# Altium schematic symbol library SCH - MCU - NUVOTON - NUVOTON NUC123SC2AN1.SchLib: 1 symbol
Pins are listed as number, name and electrical type; pins without a type are passive.

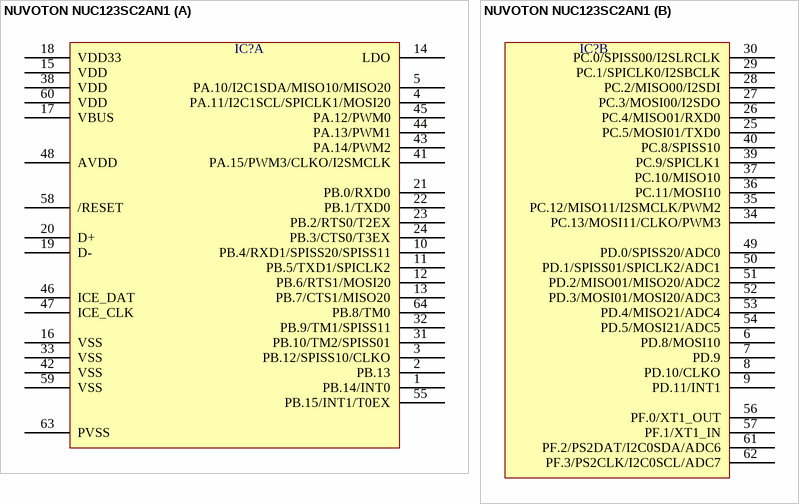
[diagram p0: symbol NUVOTON NUC123SC2AN1]

## NUVOTON NUC123SC2AN1
designator IC?  (value not drawn)
part A pins: 1 PB.14/INT0, 2 PB.13, 3 PB.12/SPISS10/CLKO, 4 PA.11/I2C1SCL/SPICLK1/MOSI20, 5 PA.10/I2C1SDA/MISO10/MISO20, 10 PB.4/RXD1/SPISS20/SPISS11, 11 PB.5/TXD1/SPICLK2, 12 PB.6/RTS1/MOSI20, 13 PB.7/CTS1/MISO20, 14 LDO, 15 VDD, 16 VSS, 17 VBUS, 18 VDD33, 19 D-, 20 D+, 21 PB.0/RXD0, 22 PB.1/TXD0, 23 PB.2/RTS0/T2EX, 24 PB.3/CTS0/T3EX, 31 PB.10/TM2/SPISS01, 32 PB.9/TM1/SPISS11, 33 VSS, 38 VDD, 41 PA.15/PWM3/CLKO/I2SMCLK, 42 VSS, 43 PA.14/PWM2, 44 PA.13/PWM1, 45 PA.12/PWM0, 46 ICE_DAT, 47 ICE_CLK, 48 AVDD, 55 PB.15/INT1/T0EX, 58 /RESET, 59 VSS, 60 VDD, 63 PVSS, 64 PB.8/TM0
part B pins: 6 PD.8/MOSI10, 7 PD.9, 8 PD.10/CLKO, 9 PD.11/INT1, 25 PC.5/MOSI01/TXD0, 26 PC.4/MISO01/RXD0, 27 PC.3/MOSI00/I2SDO, 28 PC.2/MISO00/I2SDI, 29 PC.1/SPICLK0/I2SBCLK, 30 PC.0/SPISS00/I2SLRCLK, 34 PC.13/MOSI11/CLKO/PWM3, 35 PC.12/MISO11/I2SMCLK/PWM2, 36 PC.11/MOSI10, 37 PC.10/MISO10, 39 PC.9/SPICLK1, 40 PC.8/SPISS10, 49 PD.0/SPISS20/ADC0, 50 PD.1/SPISS01/SPICLK2/ADC1, 51 PD.2/MISO01/MISO20/ADC2, 52 PD.3/MOSI01/MOSI20/ADC3, 53 PD.4/MISO21/ADC4, 54 PD.5/MOSI21/ADC5, 56 PF.0/XT1_OUT, 57 PF.1/XT1_IN, 61 PF.2/PS2DAT/I2C0SDA/ADC6, 62 PF.3/PS2CLK/I2C0SCL/ADC7